# EAGLE library part NCV7718 (library Sparky)
Hex Half−Bridge Driver. The device can be operated in forward, reverse, brake, and high impedance states. The drivers are controlled via a 16 bit SPI interface and are daisy chain compatible.
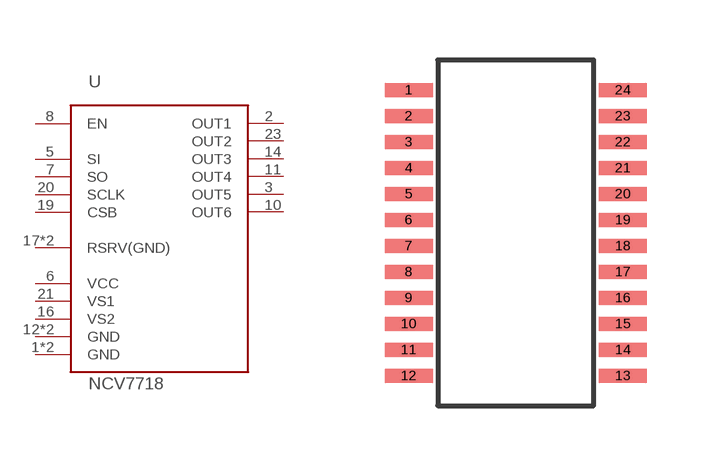
[diagram p12: symbol with the pads of SSOP-24; footprint SSOP-24]

Designator prefix -

## NCV7718  [SSOP-24]
1  GND
2  OUT1
3  OUT5
5  SI
6  VCC
7  SO
8  EN
10  OUT6
11  OUT4
12  GND
13  GND
14  OUT3
16  VS2
17  RSRV(GND)
18  RSRV(GND)
19  CSB
20  SCLK
21  VS1
23  OUT2
24  GND

## Footprint SSOP-24 (pad centres in mm)
24-SSOP package
smd 1.2 x 0.35: 1 -2.68,3.575; 2 -2.68,2.925; 3 -2.68,2.275; 4 -2.68,1.625; 5 -2.68,0.975; 6 -2.68,0.325; 7 -2.68,-0.325; 8 -2.68,-0.975; 9 -2.68,-1.625; 10 -2.68,-2.275; 11 -2.68,-2.925; 12 -2.68,-3.575; 13 2.68,-3.575; 14 2.68,-2.925; 15 2.68,-2.275; 16 2.68,-1.625; 17 2.68,-0.975; 18 2.68,-0.325; 19 2.68,0.325; 20 2.68,0.975; 21 2.68,1.625; 22 2.68,2.275; 23 2.68,2.925; 24 2.68,3.575